# Altium footprint library 781710004.PcbLib: 1 footprints
Each footprint in its own frame and in the unit in brackets; x right, y up, seen from the top. Pads: shape width x height; smd on the part's side, far side on the other; paste and mask are expansions set on the pad; w line width, h text height; cw(c..) or ccw(c..) is an arc to the next point about the centre after c.
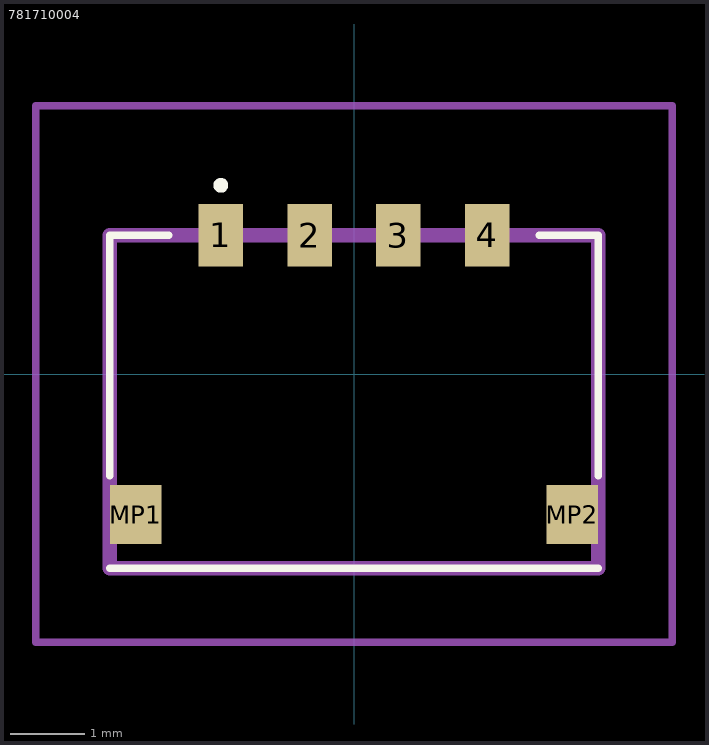
[diagram p0: the footprint, top view; thin cyan lines are the x and y axes]

## 781710004 [mm]
pads (6):
  rect 0.6x0.85 smd: 1(-1.8,1.875) 2(-0.6,1.875) 3(0.6,1.875) 4(1.8,1.875)
  rect 0.7x0.8 smd: MP1(-2.95,-1.9) MP2(2.95,-1.9)
Top Overlay:
  lines w0.1: -3.3,-2.625 3.3,-2.625 ; -3.3,-1.375 -3.3,1.875 -2.5,1.875 ; 2.5,1.875 3.3,1.875 3.3,-1.375 ; -1.8,2.5 ccw(c-1.8,2.55) -1.8,2.6 ccw(c-1.8,2.55) -1.8,2.5
Mechanical 15:
  lines w0.2: -3.3,-2.625 -3.3,1.875 3.3,1.875 3.3,-2.625 -3.3,-2.625
Mechanical 20:
  lines w0.1: -4.3,-3.625 -4.3,3.625 4.3,3.625 4.3,-3.625 -4.3,-3.625
3D body "78171-0004.stp": height 1.4, standoff -0.05, extent -3.3,-2.593 3.3,1.937